# Altium footprint library ATTinyPCB.PcbLib: 5 footprints
Each footprint in its own frame and in the unit in brackets; x right, y up, seen from the top. Pads: shape width x height; smd on the part's side, far side on the other; paste and mask are expansions set on the pad; w line width, h text height; cw(c..) or ccw(c..) is an arc to the next point about the centre after c.
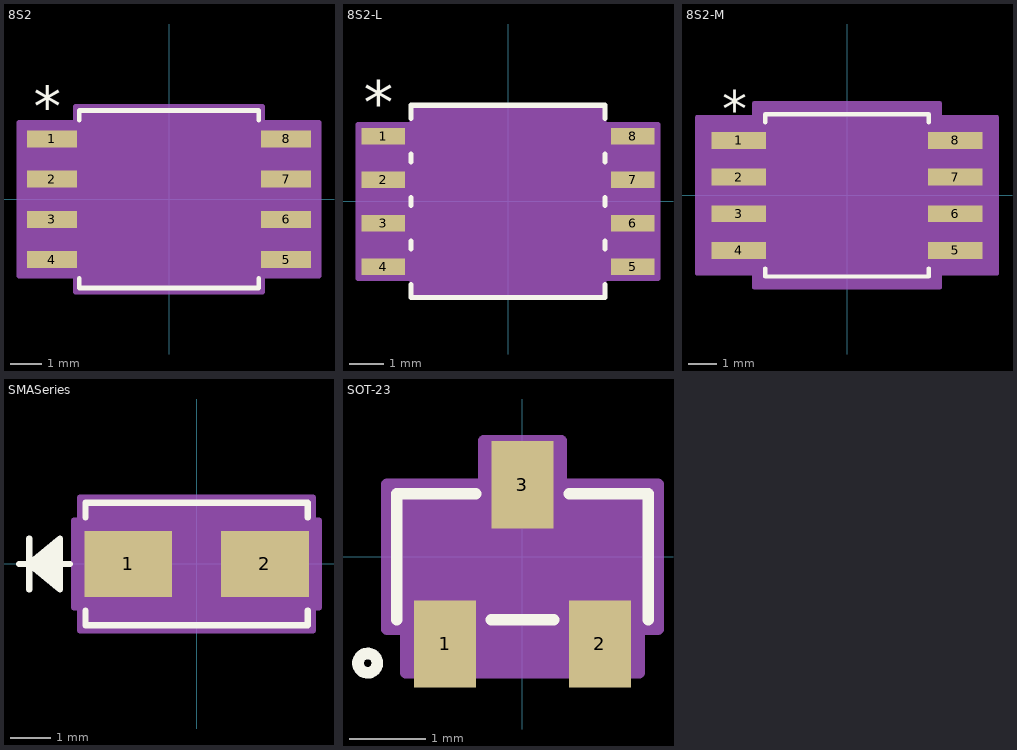
[diagram p0: the footprints below, top view; thin cyan lines are the x and y axes]

## 8S2 [mil]
pads (8):
  rect 62x21 smd paste+0 mask+0: 1(-145.5,75) 2(-145.5,25) 3(-145.5,-25) 4(-145.5,-75) 5(145.5,-75) 6(145.5,-25) 7(145.5,25) 8(145.5,75)
Top Overlay:
  lines w6: -111.5,-98.25 -111.5,-110.5 111.5,-110.5 111.5,-98.25 ; -111.5,98.25 -111.5,110.5 111.5,110.5 111.5,98.25
  text "*" at -168,91 h50
Mechanical 13:
  lines w1: -12,105.5 0,93.5 12,105.5 ; -162.5,-84.5 -162.5,-65.5 -106.5,-65.5 -106.5,-84.5 -162.5,-84.5 ; -162.5,-34.5 -162.5,-15.5 -106.5,-15.5 -106.5,-34.5 -162.5,-34.5 ; -162.5,15.5 -162.5,34.5 -106.5,34.5 -106.5,15.5 -162.5,15.5 ; -162.5,65.5 -162.5,84.5 -106.5,84.5 -106.5,65.5 -162.5,65.5 ; -106.5,-105.5 106.5,-105.5 106.5,105.5 -106.5,105.5 -106.5,-105.5 ; 106.5,-84.5 106.5,-65.5 162.5,-65.5 162.5,-84.5 106.5,-84.5 ; 106.5,-34.5 106.5,-15.5 162.5,-15.5 162.5,-34.5 106.5,-34.5 ; 106.5,15.5 106.5,34.5 162.5,34.5 162.5,15.5 106.5,15.5 ; 106.5,65.5 106.5,84.5 162.5,84.5 162.5,65.5 106.5,65.5
  text "*" at -104,52.5 h50
Mechanical 15:
  region: -116.5,-95.5 -186.5,-95.5 -186.5,95.5 -116.5,95.5 -116.5,115.5 116.5,115.5 116.5,95.5 186.5,95.5 186.5,-95.5 116.5,-95.5 116.5,-115.5 -116.5,-115.5
  lines w6: -186.5,-95.5 -186.5,95.5 -116.5,95.5 -116.5,115.5 116.5,115.5 116.5,95.5 186.5,95.5 186.5,-95.5 116.5,-95.5 116.5,-115.5 -116.5,-115.5 -116.5,-95.5 -186.5,-95.5
3D body "8S2.stp": height 85.16, standoff 0, extent -157.48,-105 167.48,106.02

## 8S2-L [mil]
pads (8):
  rect 50x19 smd paste+0 mask+0: 1(-143.5,75) 2(-143.5,25) 3(-143.5,-25) 4(-143.5,-75) 5(143.5,-75) 6(143.5,-25) 7(143.5,25) 8(143.5,75)
Top Overlay:
  lines w6: -111.5,-95.57 -111.5,-110.5 111.5,-110.5 111.5,-95.57 ; -111.5,-54.43 -111.5,-45.57 ; -111.5,-4.43 -111.5,4.43 ; -111.5,45.57 -111.5,54.43 ; -111.5,95.57 -111.5,110.5 111.5,110.5 111.5,95.57 ; 111.5,-54.43 111.5,-45.57 ; 111.5,-4.43 111.5,4.43 ; 111.5,45.57 111.5,54.43
  text "*" at -166,89 h50
Mechanical 13:
  lines w1: -12,105.5 0,93.5 12,105.5 ; -162.5,-84.5 -162.5,-65.5 -106.5,-65.5 -106.5,-84.5 -162.5,-84.5 ; -162.5,-34.5 -162.5,-15.5 -106.5,-15.5 -106.5,-34.5 -162.5,-34.5 ; -162.5,15.5 -162.5,34.5 -106.5,34.5 -106.5,15.5 -162.5,15.5 ; -162.5,65.5 -162.5,84.5 -106.5,84.5 -106.5,65.5 -162.5,65.5 ; -106.5,-105.5 106.5,-105.5 106.5,105.5 -106.5,105.5 -106.5,-105.5 ; 106.5,-84.5 106.5,-65.5 162.5,-65.5 162.5,-84.5 106.5,-84.5 ; 106.5,-34.5 106.5,-15.5 162.5,-15.5 162.5,-34.5 106.5,-34.5 ; 106.5,15.5 106.5,34.5 162.5,34.5 162.5,15.5 106.5,15.5 ; 106.5,65.5 106.5,84.5 162.5,84.5 162.5,65.5 106.5,65.5
  text "*" at -104,52.5 h50
Mechanical 15:
  region: -110.5,-88.5 -172.5,-88.5 -172.5,88.5 -110.5,88.5 -110.5,109.5 110.5,109.5 110.5,88.5 172.5,88.5 172.5,-88.5 110.5,-88.5 110.5,-109.5 -110.5,-109.5
  lines w6: -172.5,-88.5 -172.5,88.5 -110.5,88.5 -110.5,109.5 110.5,109.5 110.5,88.5 172.5,88.5 172.5,-88.5 110.5,-88.5 110.5,-109.5 -110.5,-109.5 -110.5,-88.5 -172.5,-88.5
3D body "8S2-L.stp": height 85.16, standoff 0, extent -162.48,-105.51 162.48,105.51

## 8S2-M [mil]
pads (8):
  rect 74x23 smd paste+0 mask+0: 1(-147.5,75) 2(-147.5,25) 3(-147.5,-25) 4(-147.5,-75) 5(147.5,-75) 6(147.5,-25) 7(147.5,25) 8(147.5,75)
Top Overlay:
  lines w6: -111.5,-99.6 -111.5,-110.5 111.5,-110.5 111.5,-99.6 ; -111.5,99.6 -111.5,110.5 111.5,110.5 111.5,99.6
  text "*" at -170,93 h50
Mechanical 13:
  lines w1: -12,105.5 0,93.5 12,105.5 ; -162.5,-84.5 -162.5,-65.5 -106.5,-65.5 -106.5,-84.5 -162.5,-84.5 ; -162.5,-34.5 -162.5,-15.5 -106.5,-15.5 -106.5,-34.5 -162.5,-34.5 ; -162.5,15.5 -162.5,34.5 -106.5,34.5 -106.5,15.5 -162.5,15.5 ; -162.5,65.5 -162.5,84.5 -106.5,84.5 -106.5,65.5 -162.5,65.5 ; -106.5,-105.5 106.5,-105.5 106.5,105.5 -106.5,105.5 -106.5,-105.5 ; 106.5,-84.5 106.5,-65.5 162.5,-65.5 162.5,-84.5 106.5,-84.5 ; 106.5,-34.5 106.5,-15.5 162.5,-15.5 162.5,-34.5 106.5,-34.5 ; 106.5,15.5 106.5,34.5 162.5,34.5 162.5,15.5 106.5,15.5 ; 106.5,65.5 106.5,84.5 162.5,84.5 162.5,65.5 106.5,65.5
  text "*" at -104,52.5 h50
Mechanical 15:
  region: -126.5,-106.5 -204.5,-106.5 -204.5,106.5 -126.5,106.5 -126.5,125.5 126.5,125.5 126.5,106.5 204.5,106.5 204.5,-106.5 126.5,-106.5 126.5,-125.5 -126.5,-125.5
  lines w6: -204.5,-106.5 -204.5,106.5 -126.5,106.5 -126.5,125.5 126.5,125.5 126.5,106.5 204.5,106.5 204.5,-106.5 126.5,-106.5 126.5,-125.5 -126.5,-125.5 -126.5,-106.5 -204.5,-106.5
3D body "8S2-M.stp": height 85.16, standoff 0, extent -162.48,-105 162.48,106.02

## SMASeries [mil]
pads (2):
  rect 86x65 smd paste+0 mask+0: 1(-67,0) 2(67,0)
Top Overlay:
  lines w6: -174,0 -124,0 ; -164,-25 -164,25 ; -134,-20 -164,0 ; -134,-15 -164,0 ; -134,-10 -164,0 ; -134,-5 -164,0 ; -134,5 -164,0 ; -134,10 -164,0 ; -134,15 -164,0 ; -134,20 -164,0 ; -109,-45.6 -109,-60 109,-60 109,-45.6 ; -109,45.6 -109,60 109,60 109,45.6 ; -164,0 -134,-25 -134,25 -164,0
Mechanical 13:
  lines w1: -174,0 -124,0 ; -164,-25 -164,25 ; -134,-20 -164,0 ; -134,-15 -164,0 ; -134,-10 -164,0 ; -134,-5 -164,0 ; -134,5 -164,0 ; -134,10 -164,0 ; -134,15 -164,0 ; -134,20 -164,0 ; -164,0 -134,-25 -134,25 -164,0 ; -104,-55 -104,55 104,55 104,-55 -104,-55
Mechanical 15:
  region: -114,-42.5 -120,-42.5 -120,42.5 -114,42.5 -114,65 114,65 114,42.5 120,42.5 120,-42.5 114,-42.5 114,-65 -114,-65
  lines w6: -120,-42.5 -114,-42.5 -114,-65 114,-65 114,-42.5 120,-42.5 120,42.5 114,42.5 114,65 -114,65 -114,42.5 -120,42.5 -120,-42.5
3D body "SMASeries.stp": height 92.01, standoff 0, extent -104.02,-55 104.02,55
3D body: height 10, standoff 0, extent 0,0 10,10

## SOT-23 [mil]
pads (3):
  rect 32x45 smd paste+0 mask+0: 1(-40,-45) 2(40,-45) 3(0,37.2)
Top Overlay:
  circle w6: c-80,-55 r5
  lines w6: -65.04,-32.56 -65.04,32.56 -24.14,32.56 ; -16.21,-32.56 16.21,-32.56 ; 24.14,32.56 65.04,32.56 65.04,-32.56
Mechanical 13:
  circle w0: c-50.04,-17.56 r5
  lines w1: -60.04,-27.56 60.04,-27.56 60.04,27.56 -60.04,27.56 -60.04,-27.56 ; -50.39,-49.21 -50.39,-27.56 -30.32,-27.56 -30.32,-49.21 -50.39,-49.21 ; -10.04,27.56 10.04,27.56 10.04,49.21 -10.04,49.21 -10.04,27.56 ; 30.32,-49.21 30.32,-27.56 50.39,-27.56 50.39,-49.21 30.32,-49.21
Mechanical 15:
  region: -70.04,-37.56 -70.04,37.56 -20.04,37.56 -20.04,60 20,60 20.04,37.56 70.04,37.56 70.04,-37.56 60.39,-37.56 60.39,-60 -60.39,-60 -60.39,-37.56
  region: 60.04,-27.56 -60.04,-27.56 -60.04,27.56 60.04,27.56
  lines w6: -60.39,-60 -60.39,-37.56 -70.04,-37.56 -70.04,37.56 -20.04,37.56 -20,60 ; -60,-60 60,-60 ; -20.04,60 20.04,60 20.04,37.56 70.04,37.56 70.04,-37.56 60.39,-37.56 60.39,-60
3D body "SOT23-3.stp": height 47.44, standoff 0.8, extent -58.11,-61.64 60,50
3D body: height 10, standoff 0, extent 0,0 10,10